# EAGLE library part SD_CARD1 (library SD-CARD)
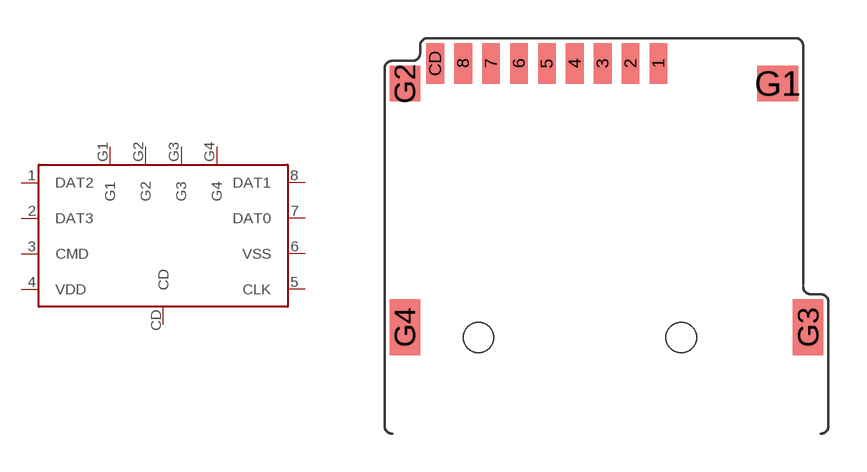
[diagram p0: symbol with the pads of SD_CARD1; footprint SD_CARD1]

Designator prefix SD

## SD_CARD1  [SD_CARD1]
1  DAT2
2  DAT3
3  CMD
4  VDD
5  CLK
6  VSS
7  DAT0
8  DAT1
CD  CD
G1  G1
G2  G2
G3  G3
G4  G4

## Footprint SD_CARD1 (pad centres in mm)
smd 0.7 x 1.6: 1 2.1,6.8; 2 1,6.8; 3 -0.1,6.8; 4 -1.2,6.8; 5 -2.3,6.8; 6 -3.4,6.8; 7 -4.5,6.8; 8 -5.6,6.8; CD -6.7,6.8
smd 1.6 x 1.4: G1 6.8,6
smd 1.2 x 1.4: G2 -7.9,6
smd 1.2 x 2.2: G3 8,-3.6; G4 -7.9,-3.6
hole 1.2 at -5,-4
hole 1.2 at 3,-4